# Altium footprint library RES_SMD_1210_Vishay.PcbLib: 4 footprints
Each footprint in its own frame and in the unit in brackets; x right, y up, seen from the top. Pads: shape width x height; smd on the part's side, far side on the other; paste and mask are expansions set on the pad; w line width, h text height; cw(c..) or ccw(c..) is an arc to the next point about the centre after c.
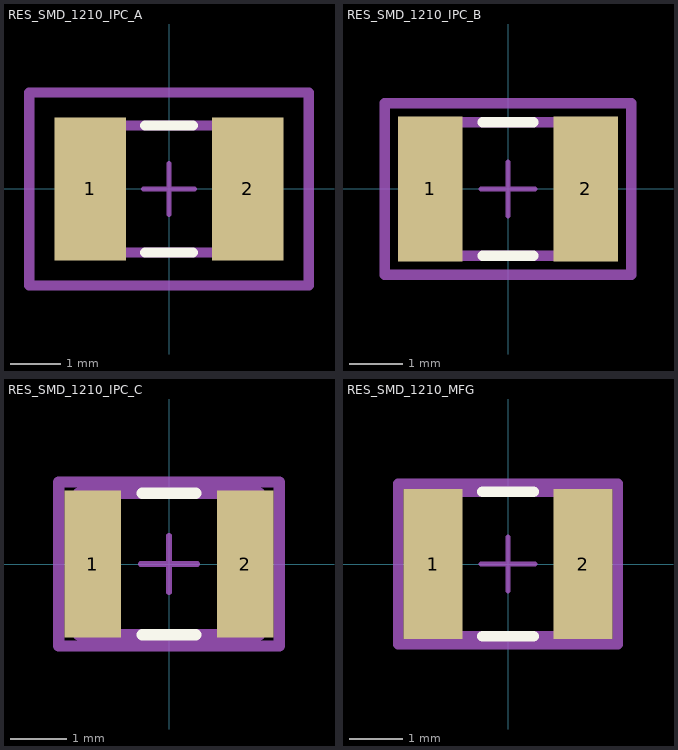
[diagram p0: the footprints below, top view; thin cyan lines are the x and y axes]

## RES_SMD_1210_IPC_A [mm]
pads (2):
  rect 1.405x2.806 smd paste+0 mask+0: 1(-1.551,0) 2(1.551,0)
Top Overlay:
  lines w0.2: -0.473,-1.25 0.473,-1.25 ; -0.473,1.25 0.473,1.25
Top 3D Body:
  lines w0.2: -1.6,-1.25 -1.6,1.25 1.6,1.25 1.6,-1.25 -1.6,-1.25
Top Assembly:
  lines w0.2: -2.753,-1.903 -2.753,1.903 2.753,1.903 2.753,-1.903 -2.753,-1.903
  text ".Designator" at 0,0.188 h1
Top Component Center:
  lines w0.1: -0.5,0 0.5,0 ; 0,-0.5 0,0.5
Top Courtyard:
  lines w0.2: -2.753,-1.903 -2.753,1.903 2.753,1.903 2.753,-1.903 -2.753,-1.903
3D body "Res_Vishay_CRCW12104K70FKEC_eec.STEP": height 0.25, standoff 0, extent -2.753,-1.903 2.753,1.903

## RES_SMD_1210_IPC_B [mm]
pads (2):
  rect 1.205x2.706 smd paste+0 mask+0: 1(-1.451,0) 2(1.451,0)
Top Overlay:
  lines w0.2: -0.473,-1.25 0.473,-1.25 ; -0.473,1.25 0.473,1.25
Top 3D Body:
  lines w0.2: -1.6,-1.25 1.6,-1.25 1.6,1.25 -1.6,1.25 -1.6,-1.25
Top Assembly:
  lines w0.2: -2.303,-1.603 2.303,-1.603 2.303,1.603 -2.303,1.603 -2.303,-1.603
  text ".Designator" at 0,0.188 h1
Top Component Center:
  lines w0.1: -0.5,0 0.5,0 ; 0,-0.5 0,0.5
Top Courtyard:
  lines w0.2: -2.303,-1.603 2.303,-1.603 2.303,1.603 -2.303,1.603 -2.303,-1.603
3D body "Res_Vishay_CRCW12104K70FKEC_eec.STEP": height 0.25, standoff 0, extent -2.303,-1.603 2.303,1.603

## RES_SMD_1210_IPC_C [mm]
pads (2):
  rect 1.005x2.606 smd paste+0 mask+0: 1(-1.351,0) 2(1.351,0)
Top Overlay:
  lines w0.2: -0.473,-1.25 0.473,-1.25 ; -0.473,1.25 0.473,1.25
Top 3D Body:
  lines w0.2: -1.6,-1.25 -1.6,1.25 1.6,1.25 1.6,-1.25 -1.6,-1.25
Top Assembly:
  lines w0.2: -1.953,-1.45 -1.953,1.45 1.953,1.45 1.953,-1.45 -1.953,-1.45
  text ".Designator" at 0,0.188 h1
Top Component Center:
  lines w0.1: -0.5,0 0.5,0 ; 0,-0.5 0,0.5
Top Courtyard:
  lines w0.2: -1.953,-1.45 -1.953,1.45 1.953,1.45 1.953,-1.45 -1.953,-1.45
3D body "Res_Vishay_CRCW12104K70FKEC_eec.STEP": height 0.25, standoff 0, extent -1.953,-1.45 1.953,1.45

## RES_SMD_1210_MFG [mm]
pads (2):
  rect 1.1x2.8 smd paste+0 mask+0: 1(-1.4,0) 2(1.4,0)
Top Overlay:
  lines w0.2: -0.475,-1.35 0.475,-1.35 ; -0.475,1.35 0.475,1.35
Top 3D Body:
  lines w0.2: -1.7,-1.35 -1.7,1.35 1.7,1.35 1.7,-1.35 -1.7,-1.35
Top Assembly:
  lines w0.2: -2.05,-1.5 -2.05,1.5 2.05,1.5 2.05,-1.5 -2.05,-1.5
  text ".Designator" at 0,0.188 h1
Top Component Center:
  lines w0.1: -0.5,0 0.5,0 ; 0,-0.5 0,0.5
Top Courtyard:
  lines w0.2: -2.05,-1.5 -2.05,1.5 2.05,1.5 2.05,-1.5 -2.05,-1.5
3D body "Res_Vishay_CRCW12104K70FKEC_eec.STEP": height 0.25, standoff 0, extent -2.05,-1.5 2.05,1.5